# Altium footprint library ESE292-2017F-Teaching-Staff.PcbLib: 6 footprints
Each footprint in its own frame and in the unit in brackets; x right, y up, seen from the top. Pads: shape width x height; smd on the part's side, far side on the other; paste and mask are expansions set on the pad; w line width, h text height; cw(c..) or ccw(c..) is an arc to the next point about the centre after c.
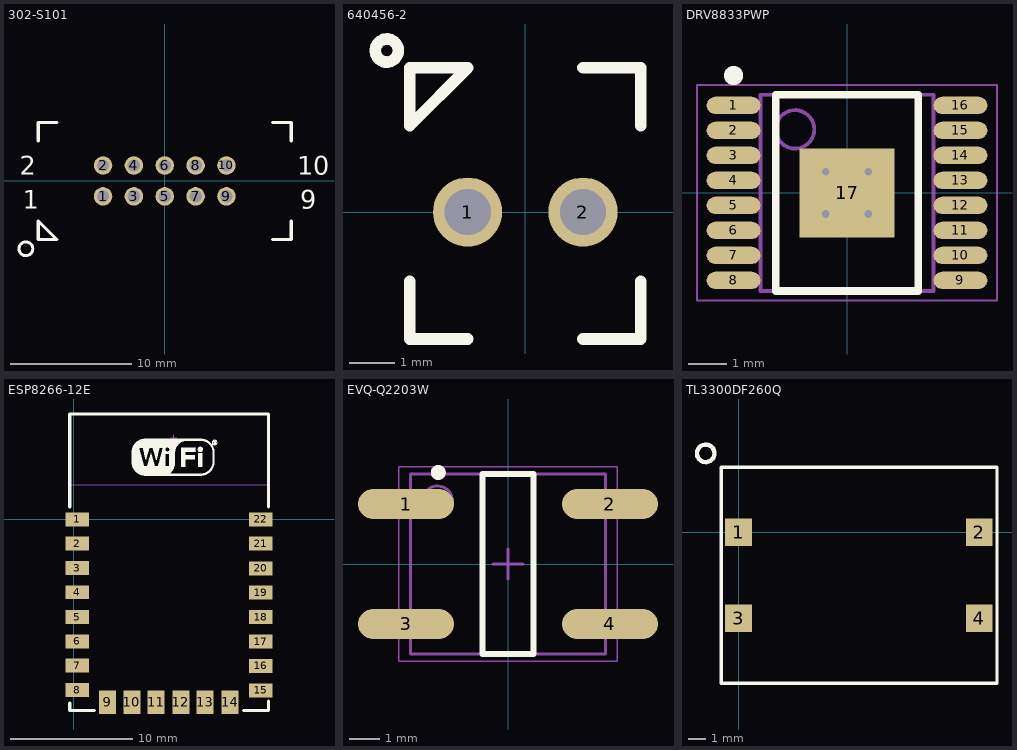
[diagram p0: the footprints below, top view; thin cyan lines are the x and y axes]

## 302-S101 [mil] "10 Positions Header, Shrouded Connector 0.100\" (2.54mm) Through Hole Gold"
pads (10):
  round 60 hole 40.16: 1(-200,-50) 2(-200,50) 3(-100,-50) 4(-100,50) 5(0,-50) 6(0,50) 7(100,-50) 8(100,50) 9(200,-50) 10(200,50)
Top Overlay:
  circle w10: c-450,-220 r22.36
  lines w10: -410,130 -410,190 -350,190 ; 350,-190 410,-190 410,-130 ; 350,190 410,190 410,130 ; -410,-190 -410,-130 -350,-190 -410,-190
  text "10" at 430,20 h60
  text "9" at 440,-90 h60
  text "1" at -460,-90 h60
  text "2" at -470,20 h60
Bottom Overlay:
  circle w10: c-450,-220 r22.36
  lines w10: -410,130 -410,190 -350,190 ; 350,-190 410,-190 410,-130 ; 350,190 410,190 410,130 ; -410,-190 -350,-190 -410,-130 -410,-190
  text "10" at 520,20 h60
  text "9" at 480,-90 h60
  text "2" at -430,20 h60
  text "1" at -440,-90 h60
3D body "3020-10-0100-xx.STEP": height 350.39, standoff -118.11, extent -399.99,-174.4 400.01,181.11

## 640456-2 [mil] "CONN HEADER VERT 2POS .100 TIN"
pads (2):
  round 60 hole 40.16: 1(-50,0) 2(50,0)
Top Overlay:
  circle w10: c-120,140 r10
  lines w10: -100,-60 -100,-110 -50,-110 ; 50,-110 100,-110 100,-60 ; 50,125 100,125 100,75 ; -100,75 -50,125 -100,125 -100,75
Bottom Overlay:
  circle w10: c-120,140 r10
  lines w10: -100,-60 -100,-110 -50,-110 ; 50,-110 100,-110 100,-60 ; 50,125 100,125 100,75 ; -100,75 -100,125 -50,125 -100,75
3D body "c-640456-2-aa-3d.stp": height 395, standoff -140, extent -99.99,-107.49 100.01,122.51

## DRV8833PWP [mm] "2A Low Voltage Dual Brushed DC or Single Bipolar Stepper Motor Driver (PWM Ctrl) 16-HTSSOP -40 to 85"
height 1.2
pads (17):
  oval 1.4x0.45 smd: 1(-2.95,2.275) 2(-2.95,1.625) 3(-2.95,0.975) 4(-2.95,0.325) 5(-2.95,-0.325) 6(-2.95,-0.975) 7(-2.95,-1.625) 8(-2.95,-2.275) 9(2.95,-2.275) 10(2.95,-1.625) 11(2.95,-0.975) 12(2.95,-0.325) 13(2.95,0.325) 14(2.95,0.975) 15(2.95,1.625) 16(2.95,2.275)
  rect 2.46x2.31 smd: 17(0,0)
via -0.55,0.55 diameter 0.5 hole 0.2
via 0.55,0.55 diameter 0.5 hole 0.2
via -0.55,-0.55 diameter 0.5 hole 0.2
via 0.55,-0.55 diameter 0.5 hole 0.2
Top Overlay:
  circle w0.25: c-2.95,3.05 r0.125
  lines w0.2: -1.85,-2.55 -1.85,2.55 1.85,2.55 1.85,-2.55 -1.85,-2.55
Mechanical 13:
  circle w0.1: c-1.35,1.65 r0.5
  lines w0.1: -2.25,-2.55 -2.25,2.55 2.25,2.55 2.25,-2.55 -2.25,-2.55
Mechanical 15:
  lines w0.05: -3.9,-2.8 -3.9,2.8 3.9,2.8 3.9,-2.8 -3.9,-2.8
  lines w0.1: -0.5,0 0.5,0 ; 0,-0.5 0,0.5
3D body "DRV8833PWP.step": height 1.2, standoff 0, extent -3.2,-2.55 3.2,2.55

## ESP8266-12E [mil] "ESP8266-12E"
pads (22):
  rect 75x45 smd: 1(12.5,0) 2(12.5,-78) 3(12.5,-157) 4(12.5,-235) 5(12.5,-315) 6(12.5,-393) 7(12.5,-471) 8(12.5,-550) 15(602.5,-551) 16(602.5,-472) 17(602.5,-394) 18(602.5,-315) 19(602.5,-236) 20(602.5,-158) 21(602.5,-78) 22(602.5,0)
  rect 55x75 smd: 9(110,-589.5) 10(188,-589.5) 11(266,-589.5) 12(346,-589.5) 13(424,-589.5) 14(504,-589.5)
Top Overlay:
  drawing of 1267 lines, arcs and shapes, not listed
Mechanical 13:
  lines w2: -9.96,111.97 630.04,111.97
  text "CUTOUT POLYGON" at 0.04,294.59 h10
  text "ANTENNA AREA" at 0.04,314.59 h10
Mechanical 15:
  lines w3.94: 312,261.92 332,261.92 ; 322,251.92 322,271.92
3D body "ESP_12_ENew.STEP": height 150.35, standoff -1.94, extent -8.24,-611 622.24,335.09

## EVQ-Q2203W [mm] "SWITCH TACTILE SPST-NO 0.02A 15V, SOJ, 4-Leads, Body 6.00x6.60mm, Pitch 4.00mm, IPC Medium Density"
height 3.1
pads (4):
  oval 3.2x1 smd: 1(-3.4,2) 2(3.4,2) 3(-3.4,-2) 4(3.4,-2)
Top Overlay:
  circle w0.25: c-2.325,3.05 r0.125
  lines w0.2: -0.85,-3 0.85,-3 0.85,3 -0.85,3 -0.85,-3
Mechanical 13:
  circle w0.1: c-2.35,2.1 r0.5
  lines w0.1: -3.25,-3 3.25,-3 3.25,3 -3.25,3 -3.25,-3
Mechanical 15:
  lines w0.05: -3.65,-3.25 3.65,-3.25 3.65,3.25 -3.65,3.25 -3.65,-3.25
  lines w0.1: -0.5,0 0.5,0 ; 0,-0.5 0,0.5
3D body "EVQQ2203W.STEP": height 3.11, standoff 0.01, extent -3.275,-2.925 3.325,3.075

## TL3300DF260Q [mm] "SWITCH TACTILE SPST-NO 0.05A 12V"
height 4.293
pads (4):
  rect 1.55x1.6 smd: 1(0,0) 2(13.95,0) 3(0,-5) 4(13.95,-5)
Top Overlay:
  circle w0.254: c-1.905,4.572 r0.508
  lines w0.2: -1.016,-8.77 -1.016,3.77 14.986,3.77 14.986,-8.77 -1.016,-8.77
3D body "TL3300DFxxxQ.stp": height 4.3, standoff -0.3, extent -0.515,-8.509 14.485,3.491